# Altium schematic symbol library Capacitor_0603_5_percent.SchLib: 20 symbols
Pins are listed as number, name and electrical type; pins without a type are passive.

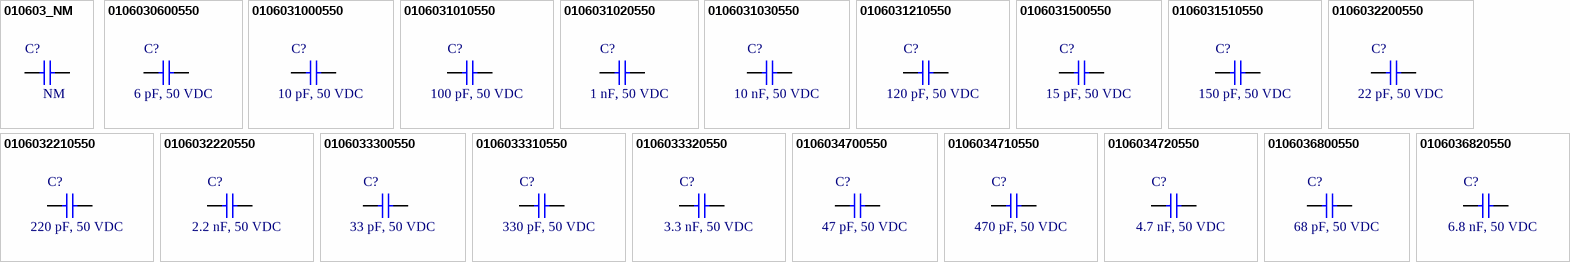
[diagram p0: symbols 010603_NM to 0106036820550]

## 010603_NM
designator C?, comment NM
CAP, size 0603, NM; Packaging: Tape and Reel; Capacitance: N/A; Supplier 1 URL: N/A; Supplier 2 URL: N/A; Supplier 3 URL: N/A; Tolerance: N/A; Voltage Rating DC: N/A; Value: NM; Supplier 1: N/A; Supplier 1 Part Number: N/A; Supplier 2: N/A; Supplier 2 Part Number: N/A; Supplier 3: thegioiic; Supplier 3 Part Number: N/A; Manufacturer: N/A; Manufacturer Part Number: N/A; ComponentLink1Description: Datasheet; ComponentLink1URL: N/A; Mount: SMD/SMT; Operating Temperature Max: + 85 C; Operating Temperature Min: - 40 C; Package / Case: 0603
footprint CAP_0603 (Chip Capacitor, 2-Leads, Body 1.80x0.80mm, IPC Medium Density)
pins: 1, 2

## 0106030600550
designator C?, comment 6 pF, 50 VDC
CAP, size 0603, 6 pF, 50 VDC; Manufacturer: TDK; Manufacturer Part Number: CGA3E2NP01H060D080AA; Capacitance: 6 pF; Tolerance: +/-5%; Voltage Rating DC: 50 VDC; Packaging: Tape and Reel; Supplier 1 URL: https://www.mouser.com/ProductDetail/TDK/CGA3E2NP01H060D080AA?qs=xLDY6iXSiQboN%2F6my%2FnNkQ%3D%3D&utm_source=mouser-refine-download&utm_medium=file&utm_campaign=CGA3E2NP01H060D080AA&utm_content=TDK; Supplier 2 URL: https://www.digikey.com/en/products/detail/tdk-corporation/cga3e2np01h060d080aa/3949663; Supplier 3 URL: N/A; Value: 6 pF, 50 VDC; Supplier 1: Mouser; Supplier 1 Part Number: 810-CGA3E2NP01H060DA; Supplier 2: Digi-Key; Supplier 2 Part Number: 445-12427-2-ND; Supplier 3: thegioiic; Supplier 3 Part Number: N/A; ComponentLink1Description: Datasheet; ComponentLink1URL: https://product.tdk.com/system/files/dam/doc/product/capacitor/ceramic/mlcc/catalog/mlcc_automotive_hightemp_en.pdf?ref_disty=mouser; Mount: SMD/SMT; Operating Temperature Max: + 85 C; Operating Temperature Min: - 40 C; Package / Case: 0603
footprint CAP_0603
pins: 1, 2

## 0106031000550
designator C?, comment 10 pF, 50 VDC
CAP, size 0603, 10 pF, 50 VDC; Manufacturer: TDK; Manufacturer Part Number: CGA3E2NP01H100D080AA; Capacitance: 10 pF; Tolerance: +/-5%; Voltage Rating DC: 50 VDC; Packaging: Tape and Reel; Supplier 1 URL: https://www.mouser.com/ProductDetail/TDK/CGA3E2NP01H100D080AA?qs=xLDY6iXSiQYSDBjUp7bVxg%3D%3D&utm_source=mouser-refine-download&utm_medium=file&utm_campaign=CGA3E2NP01H100D080AA&utm_content=TDK; Supplier 2 URL: https://www.digikey.com/en/products/detail/tdk-corporation/cga3e2np01h100d080aa/3949623; Supplier 3 URL: N/A; Value: 10 pF, 50 VDC; Supplier 1: Mouser; Supplier 1 Part Number: 810-CGA3E2NP01H100DA; Supplier 2: Digi-Key; Supplier 2 Part Number: 445-12387-2-ND; Supplier 3: thegioiic; Supplier 3 Part Number: N/A; ComponentLink1Description: Datasheet; ComponentLink1URL: https://product.tdk.com/system/files/dam/doc/product/capacitor/ceramic/mlcc/catalog/mlcc_automotive_hightemp_en.pdf?ref_disty=mouser; Mount: SMD/SMT; Operating Temperature Max: + 85 C; Operating Temperature Min: - 40 C; Package / Case: 0603; LCSC Part #: C597129
footprint CAP_0603
pins: 1, 2

## 0106031010550
designator C?, comment 100 pF, 50 VDC
CAP, size 0603, 100 pF, 50 VDC; Manufacturer: TDK; Manufacturer Part Number: CGA3E2C0G1H101J080AA; Capacitance: 100 pF; Tolerance: +/-5%; Voltage Rating DC: 50 VDC; Packaging: Tape and Reel; Supplier 1 URL: https://www.mouser.com/ProductDetail/TDK/CGA3E2C0G1H101J080AA?qs=FxQuwy19cyBF0gUakpLdHA%3D%3D&utm_source=mouser-refine-download&utm_medium=file&utm_campaign=CGA3E2C0G1H101J080AA&utm_content=TDK; Supplier 2 URL: https://www.digikey.com/en/products/detail/tdk-corporation/cga3e2c0g1h101j080aa/2443118; Supplier 3 URL: N/A; Value: 100 pF, 50 VDC; Supplier 1: Mouser; Supplier 1 Part Number: 810-CGA3E2C0G1H101J; Supplier 2: Digi-Key; Supplier 2 Part Number: 445-5640-2-ND; Supplier 3: thegioiic; Supplier 3 Part Number: N/A; ComponentLink1Description: Datasheet; ComponentLink1URL: https://product.tdk.com/system/files/dam/doc/product/capacitor/ceramic/mlcc/catalog/mlcc_automotive_general_en.pdf?ref_disty=mouser; Mount: SMD/SMT; Operating Temperature Max: + 85 C; Operating Temperature Min: - 40 C; Package / Case: 0603
footprint CAP_0603
pins: 1, 2

## 0106031020550
designator C?, comment 1 nF, 50 VDC
CAP, size 0603, 1 nF, 50 VDC; Manufacturer: TDK; Manufacturer Part Number: CGA3E2NP01H102J080AA; Capacitance: 1 nF; Tolerance: +/-5%; Voltage Rating DC: 50 VDC; Packaging: Tape and Reel; Supplier 1 URL: https://www.mouser.com/ProductDetail/TDK/CGA3E2NP01H102J080AA?qs=xLDY6iXSiQaozl9q8leaqQ%3D%3D&utm_source=mouser-refine-download&utm_medium=file&utm_campaign=CGA3E2NP01H102J080AA&utm_content=TDK; Supplier 2 URL: https://www.digikey.com/en/products/detail/tdk-corporation/cga3e2np01h102j080aa/3949621; Supplier 3 URL: N/A; Value: 1 nF, 50 VDC; Supplier 1: Mouser; Supplier 1 Part Number: 810-CGA3E2NP01H102JA; Supplier 2: Digi-Key; Supplier 2 Part Number: 445-12385-2-ND; Supplier 3: thegioiic; Supplier 3 Part Number: N/A; ComponentLink1Description: Datasheet; ComponentLink1URL: https://product.tdk.com/system/files/dam/doc/product/capacitor/ceramic/mlcc/catalog/mlcc_automotive_hightemp_en.pdf?ref_disty=mouser; Mount: SMD/SMT; Operating Temperature Max: + 85 C; Operating Temperature Min: - 40 C; Package / Case: 0603
footprint CAP_0603
pins: 1, 2

## 0106031030550
designator C?, comment 10 nF, 50 VDC
CAP, size 0603, 10 nF, 50 VDC; Manufacturer: TDK; Manufacturer Part Number: CGA3E2C0G1H103J080AE; Capacitance: 10 nF; Tolerance: +/-5%; Voltage Rating DC: 50 VDC; Packaging: Tape and Reel; Supplier 1 URL: https://www.mouser.com/ProductDetail/TDK/CGA3E2C0G1H103J080AE?qs=P1JMDcb91o6ZkMITrWTUZQ%3D%3D&utm_source=mouser-refine-download&utm_medium=file&utm_campaign=CGA3E2C0G1H103J080AE&utm_content=TDK; Supplier 2 URL: https://www.digikey.com/en/products/detail/tdk-corporation/cga3e2c0g1h103j080ae/11697946; Supplier 3 URL: N/A; Value: 10 nF, 50 VDC; Supplier 1: Mouser; Supplier 1 Part Number: 810-CGA3E2C0G1H103J8; Supplier 2: Digi-Key; Supplier 2 Part Number: 445-CGA3E2C0G1H103J080AETR-ND; Supplier 3: thegioiic; Supplier 3 Part Number: N/A; ComponentLink1Description: Datasheet; ComponentLink1URL: https://product.tdk.com/system/files/dam/doc/product/capacitor/ceramic/mlcc/catalog/mlcc_automotive_soft_en.pdf?ref_disty=mouser; Mount: SMD/SMT; Operating Temperature Max: + 85 C; Operating Temperature Min: - 40 C; Package / Case: 0603
footprint CAP_0603
pins: 1, 2

## 0106031210550
designator C?, comment 120 pF, 50 VDC
CAP, size 0603, 120 pF, 50 VDC; Manufacturer: TDK; Manufacturer Part Number: CGA3E2C0G1H121J080AA; Capacitance: 120 pF; Tolerance: +/-5%; Voltage Rating DC: 50 VDC; Packaging: Tape and Reel; Supplier 1 URL: https://www.mouser.com/ProductDetail/TDK/CGA3E2C0G1H121J080AA?qs=FxQuwy19cyBg4sbqrDD07w%3D%3D&utm_source=mouser-refine-download&utm_medium=file&utm_campaign=CGA3E2C0G1H121J080AA&utm_content=TDK; Supplier 2 URL: https://www.digikey.com/en/products/detail/tdk-corporation/cga3e2c0g1h121j080aa/2443119; Supplier 3 URL: N/A; Value: 120 pF, 50 VDC; Supplier 1: Mouser; Supplier 1 Part Number: 810-CGA3E2C0G1H121J; Supplier 2: Digi-Key; Supplier 2 Part Number: 445-5641-2-ND; Supplier 3: thegioiic; Supplier 3 Part Number: N/A; ComponentLink1Description: Datasheet; ComponentLink1URL: https://product.tdk.com/system/files/dam/doc/product/capacitor/ceramic/mlcc/catalog/mlcc_automotive_general_en.pdf?ref_disty=mouser; Mount: SMD/SMT; Operating Temperature Max: + 85 C; Operating Temperature Min: - 40 C; Package / Case: 0603
footprint CAP_0603
pins: 1, 2

## 0106031500550
designator C?, comment 15 pF, 50 VDC
CAP, size 0603, 15 pF, 50 VDC; Manufacturer: TDK; Manufacturer Part Number: CGA3E2NP01H150J080AA; Capacitance: 15 pF; Tolerance: +/-5%; Voltage Rating DC: 50 VDC; Packaging: Tape and Reel; Supplier 1 URL: https://www.mouser.com/ProductDetail/TDK/CGA3E2NP01H150J080AA?qs=xLDY6iXSiQaG7IFLqTiW9w%3D%3D&utm_source=mouser-refine-download&utm_medium=file&utm_campaign=CGA3E2NP01H150J080AA&utm_content=TDK; Supplier 2 URL: https://www.digikey.com/en/products/detail/tdk-corporation/cga3e2np01h150j080aa/3949629; Supplier 3 URL: N/A; Value: 15 pF, 50 VDC; Supplier 1: Mouser; Supplier 1 Part Number: 810-CGA3E2NP01H150JA; Supplier 2: Digi-Key; Supplier 2 Part Number: 445-12393-2-ND; Supplier 3: thegioiic; Supplier 3 Part Number: N/A; ComponentLink1Description: Datasheet; ComponentLink1URL: https://product.tdk.com/system/files/dam/doc/product/capacitor/ceramic/mlcc/catalog/mlcc_automotive_hightemp_en.pdf?ref_disty=mouser; Mount: SMD/SMT; Operating Temperature Max: + 85 C; Operating Temperature Min: - 40 C; Package / Case: 0603
footprint CAP_0603
pins: 1, 2

## 0106031510550
designator C?, comment 150 pF, 50 VDC
CAP, size 0603, 150 pF, 50 VDC; Manufacturer: TDK; Manufacturer Part Number: CGA3E2NP01H151J080AA; Capacitance: 150 pF; Tolerance: +/-5%; Voltage Rating DC: 50 VDC; Packaging: Tape and Reel; Supplier 1 URL: https://www.mouser.com/ProductDetail/TDK/CGA3E2NP01H151J080AA?qs=xLDY6iXSiQbM3h2lmj%252BEHw%3D%3D&utm_source=mouser-refine-download&utm_medium=file&utm_campaign=CGA3E2NP01H151J080AA&utm_content=TDK; Supplier 2 URL: https://www.digikey.com/en/products/detail/tdk-corporation/cga3e2np01h151j080aa/3949628; Supplier 3 URL: N/A; Value: 150 pF, 50 VDC; Supplier 1: Mouser; Supplier 1 Part Number: 810-CGA3E2NP01H151JA; Supplier 2: Digi-Key; Supplier 2 Part Number: 445-12392-2-ND; Supplier 3: thegioiic; Supplier 3 Part Number: N/A; ComponentLink1Description: Datasheet; ComponentLink1URL: https://product.tdk.com/system/files/dam/doc/product/capacitor/ceramic/mlcc/catalog/mlcc_automotive_hightemp_en.pdf?ref_disty=mouser; Mount: SMD/SMT; Operating Temperature Max: + 85 C; Operating Temperature Min: - 40 C; Package / Case: 0603
footprint CAP_0603
pins: 1, 2

## 0106032200550
designator C?, comment 22 pF, 50 VDC
CAP, size 0603, 22 pF, 50 VDC; Manufacturer: TDK; Manufacturer Part Number: CGA3E2NP01H220J080AA; Capacitance: 22 pF; Tolerance: +/-5%; Voltage Rating DC: 50 VDC; Packaging: Tape and Reel; Supplier 1 URL: https://www.mouser.com/ProductDetail/TDK/CGA3E2NP01H220J080AA?qs=xLDY6iXSiQbIDiPJq57tVA%3D%3D&utm_source=mouser-refine-download&utm_medium=file&utm_campaign=CGA3E2NP01H220J080AA&utm_content=TDK; Supplier 2 URL: https://www.digikey.com/en/products/detail/tdk-corporation/cga3e2np01h220j080aa/3949637; Supplier 3 URL: N/A; Value: 22 pF, 50 VDC; Supplier 1: Mouser; Supplier 1 Part Number: 810-CGA3E2NP01H220JA; Supplier 2: Digi-Key; Supplier 2 Part Number: 445-12401-2-ND; Supplier 3: thegioiic; Supplier 3 Part Number: N/A; ComponentLink1Description: Datasheet; ComponentLink1URL: https://product.tdk.com/system/files/dam/doc/product/capacitor/ceramic/mlcc/catalog/mlcc_automotive_hightemp_en.pdf?ref_disty=mouser; Mount: SMD/SMT; Operating Temperature Max: + 85 C; Operating Temperature Min: - 40 C; Package / Case: 0603
footprint CAP_0603
pins: 1, 2

## 0106032210550
designator C?, comment 220 pF, 50 VDC
CAP, size 0603, 220 pF, 50 VDC; Manufacturer: TDK; Manufacturer Part Number: CGA3E2NP01H221J080AA; Capacitance: 220 pF; Tolerance: +/-5%; Voltage Rating DC: 50 VDC; Packaging: Tape and Reel; Supplier 1 URL: https://www.mouser.com/ProductDetail/TDK/CGA3E2NP01H221J080AA?qs=xLDY6iXSiQYBui4uRYEznw%3D%3D&utm_source=mouser-refine-download&utm_medium=file&utm_campaign=CGA3E2NP01H221J080AA&utm_content=TDK; Supplier 2 URL: https://www.digikey.com/en/products/detail/tdk-corporation/cga3e2np01h221j080aa/3949636; Supplier 3 URL: N/A; Value: 220 pF, 50 VDC; Supplier 1: Mouser; Supplier 1 Part Number: 810-CGA3E2NP01H221JA; Supplier 2: Digi-Key; Supplier 2 Part Number: 445-12400-2-ND; Supplier 3: thegioiic; Supplier 3 Part Number: N/A; ComponentLink1Description: Datasheet; ComponentLink1URL: https://product.tdk.com/system/files/dam/doc/product/capacitor/ceramic/mlcc/catalog/mlcc_automotive_hightemp_en.pdf?ref_disty=mouser; Mount: SMD/SMT; Operating Temperature Max: + 85 C; Operating Temperature Min: - 40 C; Package / Case: 0603
footprint CAP_0603
pins: 1, 2

## 0106032220550
designator C?, comment 2.2 nF, 50 VDC
CAP, size 0603, 2.2 nF, 50 VDC; Manufacturer: TDK; Manufacturer Part Number: CGA3E2C0G1H222J080AE; Capacitance: 2.2 nF; Tolerance: +/-5%; Voltage Rating DC: 50 VDC; Packaging: Tape and Reel; Supplier 1 URL: https://www.mouser.com/ProductDetail/TDK/CGA3E2C0G1H222J080AE?qs=P1JMDcb91o5KNu2GzASXrQ%3D%3D&utm_source=mouser-refine-download&utm_medium=file&utm_campaign=CGA3E2C0G1H222J080AE&utm_content=TDK; Supplier 2 URL: https://www.digikey.com/en/products/detail/tdk-corporation/cga3e2c0g1h222j080ae/11697925; Supplier 3 URL: N/A; Value: 2.2 nF, 50 VDC; Supplier 1: Mouser; Supplier 1 Part Number: 810-CGA3E2C0G1H222J8; Supplier 2: Digi-Key; Supplier 2 Part Number: 445-CGA3E2C0G1H222J080AETR-ND; Supplier 3: thegioiic; Supplier 3 Part Number: N/A; ComponentLink1Description: Datasheet; ComponentLink1URL: https://product.tdk.com/system/files/dam/doc/product/capacitor/ceramic/mlcc/catalog/mlcc_automotive_soft_en.pdf?ref_disty=mouser; Mount: SMD/SMT; Operating Temperature Max: + 85 C; Operating Temperature Min: - 40 C; Package / Case: 0603
footprint CAP_0603
pins: 1, 2

## 0106033300550
designator C?, comment 33 pF, 50 VDC
CAP, size 0603, 33 pF, 50 VDC; Manufacturer: TDK; Manufacturer Part Number: CGA3E2NP01H330J080AA; Capacitance: 33 pF; Tolerance: +/-5%; Voltage Rating DC: 50 VDC; Packaging: Tape and Reel; Supplier 1 URL: https://www.mouser.com/ProductDetail/TDK/CGA3E2NP01H330J080AA?qs=xLDY6iXSiQZLs28ZlT4aFg%3D%3D&utm_source=mouser-refine-download&utm_medium=file&utm_campaign=CGA3E2NP01H330J080AA&utm_content=TDK; Supplier 2 URL: https://www.digikey.com/en/products/detail/tdk-corporation/cga3e2np01h330j080aa/3949645; Supplier 3 URL: N/A; Value: 33 pF, 50 VDC; Supplier 1: Mouser; Supplier 1 Part Number: 810-CGA3E2NP01H330JA; Supplier 2: Digi-Key; Supplier 2 Part Number: 445-12409-2-ND; Supplier 3: thegioiic; Supplier 3 Part Number: N/A; ComponentLink1Description: Datasheet; ComponentLink1URL: https://product.tdk.com/system/files/dam/doc/product/capacitor/ceramic/mlcc/catalog/mlcc_automotive_hightemp_en.pdf?ref_disty=mouser; Mount: SMD/SMT; Operating Temperature Max: + 85 C; Operating Temperature Min: - 40 C; Package / Case: 0603
footprint CAP_0603
pins: 1, 2

## 0106033310550
designator C?, comment 330 pF, 50 VDC
CAP, size 0603, 330 pF, 50 VDC; Manufacturer: TDK; Manufacturer Part Number: CGA3E2C0G1H331J080AE; Capacitance: 330 pF; Tolerance: +/-5%; Voltage Rating DC: 50 VDC; Packaging: Tape and Reel; Supplier 1 URL: https://www.mouser.com/ProductDetail/TDK/CGA3E2C0G1H331J080AE?qs=P1JMDcb91o7BZBrb2%2F%252BfEg%3D%3D&utm_source=mouser-refine-download&utm_medium=file&utm_campaign=CGA3E2C0G1H331J080AE&utm_content=TDK; Supplier 2 URL: https://www.digikey.com/en/products/detail/tdk-corporation/cga3e2c0g1h331j080ae/11697951; Supplier 3 URL: N/A; Value: 330 pF, 50 VDC; Supplier 1: Mouser; Supplier 1 Part Number: 810-CGA3E2C0G1H331J8; Supplier 2: Digi-Key; Supplier 2 Part Number: 445-CGA3E2C0G1H331J080AETR-ND; Supplier 3: thegioiic; Supplier 3 Part Number: N/A; ComponentLink1Description: Datasheet; ComponentLink1URL: https://product.tdk.com/system/files/dam/doc/product/capacitor/ceramic/mlcc/catalog/mlcc_automotive_soft_en.pdf?ref_disty=mouser; Mount: SMD/SMT; Operating Temperature Max: + 85 C; Operating Temperature Min: - 40 C; Package / Case: 0603
footprint CAP_0603
pins: 1, 2

## 0106033320550
designator C?, comment 3.3 nF, 50 VDC
CAP, size 0603, 3.3 nF, 50 VDC; Manufacturer: TDK; Manufacturer Part Number: CGA3E2C0G1H332J080AE; Capacitance: 3.3 nF; Tolerance: +/-5%; Voltage Rating DC: 50 VDC; Packaging: Tape and Reel; Supplier 1 URL: https://www.mouser.com/ProductDetail/TDK/CGA3E2C0G1H332J080AE?qs=P1JMDcb91o59%252BuVOytSHFw%3D%3D&utm_source=mouser-refine-download&utm_medium=file&utm_campaign=CGA3E2C0G1H332J080AE&utm_content=TDK; Supplier 2 URL: https://www.digikey.com/en/products/detail/tdk-corporation/cga3e2c0g1h332j080ae/11697916; Supplier 3 URL: N/A; Value: 3.3 nF, 50 VDC; Supplier 1: Mouser; Supplier 1 Part Number: 810-CGA3E2C0G1H332J8; Supplier 2: Digi-Key; Supplier 2 Part Number: 445-CGA3E2C0G1H332J080AETR-ND; Supplier 3: thegioiic; Supplier 3 Part Number: N/A; ComponentLink1Description: Datasheet; ComponentLink1URL: https://product.tdk.com/system/files/dam/doc/product/capacitor/ceramic/mlcc/catalog/mlcc_automotive_soft_en.pdf?ref_disty=mouser; Mount: SMD/SMT; Operating Temperature Max: + 85 C; Operating Temperature Min: - 40 C; Package / Case: 0603
footprint CAP_0603
pins: 1, 2

## 0106034700550
designator C?, comment 47 pF, 50 VDC
CAP, size 0603, 47 pF, 50 VDC; Manufacturer: TDK; Manufacturer Part Number: CGA3E2NP01H470J080AA; Capacitance: 47 pF; Tolerance: +/-5%; Voltage Rating DC: 50 VDC; Packaging: Tape and Reel; Supplier 1 URL: https://www.mouser.com/ProductDetail/TDK/CGA3E2NP01H470J080AA?qs=xLDY6iXSiQafbKrKYP6n6w%3D%3D&utm_source=mouser-refine-download&utm_medium=file&utm_campaign=CGA3E2NP01H470J080AA&utm_content=TDK; Supplier 2 URL: https://www.digikey.com/en/products/detail/tdk-corporation/cga3e2np01h470j080aa/3949653; Supplier 3 URL: N/A; Value: 47 pF, 50 VDC; Supplier 1: Mouser; Supplier 1 Part Number: 810-CGA3E2NP01H470JA; Supplier 2: Digi-Key; Supplier 2 Part Number: 445-12417-2-ND; Supplier 3: thegioiic; Supplier 3 Part Number: N/A; ComponentLink1Description: Datasheet; ComponentLink1URL: https://product.tdk.com/system/files/dam/doc/product/capacitor/ceramic/mlcc/catalog/mlcc_automotive_hightemp_en.pdf?ref_disty=mouser; Mount: SMD/SMT; Operating Temperature Max: + 85 C; Operating Temperature Min: - 40 C; Package / Case: 0603
footprint CAP_0603
pins: 1, 2

## 0106034710550
designator C?, comment 470 pF, 50 VDC
CAP, size 0603, 470 pF, 50 VDC; Manufacturer: TDK; Manufacturer Part Number: CGA3E2C0G1H471J080AA; Capacitance: 470 pF; Tolerance: +/-5%; Voltage Rating DC: 50 VDC; Packaging: Tape and Reel; Supplier 1 URL: https://www.mouser.com/ProductDetail/TDK/CGA3E2C0G1H471J080AA?qs=FxQuwy19cyDgYWT5Y4dMEA%3D%3D&utm_source=mouser-refine-download&utm_medium=file&utm_campaign=CGA3E2C0G1H471J080AA&utm_content=TDK; Supplier 2 URL: https://www.digikey.com/en/products/detail/tdk-corporation/cga3e2c0g1h471j080aa/2443126; Supplier 3 URL: N/A; Value: 470 pF, 50 VDC; Supplier 1: Mouser; Supplier 1 Part Number: 810-CGA3E2C0G1H471J; Supplier 2: Digi-Key; Supplier 2 Part Number: 445-5648-2-ND; Supplier 3: thegioiic; Supplier 3 Part Number: N/A; ComponentLink1Description: Datasheet; ComponentLink1URL: https://product.tdk.com/system/files/dam/doc/product/capacitor/ceramic/mlcc/catalog/mlcc_automotive_general_en.pdf?ref_disty=mouser; Mount: SMD/SMT; Operating Temperature Max: + 85 C; Operating Temperature Min: - 40 C; Package / Case: 0603
footprint CAP_0603
pins: 1, 2

## 0106034720550
designator C?, comment 4.7 nF, 50 VDC
CAP, size 0603, 4.7 nF, 50 VDC; Manufacturer: TDK; Manufacturer Part Number: CGA3E2C0G1H472J080AE; Capacitance: 4.7 nF; Tolerance: +/-5%; Voltage Rating DC: 50 VDC; Packaging: Tape and Reel; Supplier 1 URL: https://www.mouser.com/ProductDetail/TDK/CGA3E2C0G1H472J080AE?qs=P1JMDcb91o40yPGsg8XhIQ%3D%3D&utm_source=mouser-refine-download&utm_medium=file&utm_campaign=CGA3E2C0G1H472J080AE&utm_content=TDK; Supplier 2 URL: https://www.digikey.com/en/products/detail/tdk-corporation/cga3e2c0g1h472j080ae/11697957; Supplier 3 URL: N/A; Value: 4.7 nF, 50 VDC; Supplier 1: Mouser; Supplier 1 Part Number: 810-CGA3E2C0G1H472J8; Supplier 2: Digi-Key; Supplier 2 Part Number: 445-CGA3E2C0G1H472J080AETR-ND; Supplier 3: thegioiic; Supplier 3 Part Number: N/A; ComponentLink1Description: Datasheet; ComponentLink1URL: https://product.tdk.com/system/files/dam/doc/product/capacitor/ceramic/mlcc/catalog/mlcc_automotive_soft_en.pdf?ref_disty=mouser; Mount: SMD/SMT; Operating Temperature Max: + 85 C; Operating Temperature Min: - 40 C; Package / Case: 0603
footprint CAP_0603
pins: 1, 2

## 0106036800550
designator C?, comment 68 pF, 50 VDC
CAP, size 0603, 68 pF, 50 VDC; Manufacturer: TDK; Manufacturer Part Number: CGA3E2NP01H680J080AA; Capacitance: 68 pF; Tolerance: +/-5%; Voltage Rating DC: 50 VDC; Packaging: Tape and Reel; Supplier 1 URL: https://www.mouser.com/ProductDetail/TDK/CGA3E2NP01H680J080AA?qs=xLDY6iXSiQaqOSAuMryyzg%3D%3D&utm_source=mouser-refine-download&utm_medium=file&utm_campaign=CGA3E2NP01H680J080AA&utm_content=TDK; Supplier 2 URL: https://www.digikey.com/en/products/detail/tdk-corporation/cga3e2np01h680j080aa/3949662; Supplier 3 URL: N/A; Value: 68 pF, 50 VDC; Supplier 1: Mouser; Supplier 1 Part Number: 810-CGA3E2NP01H680JA; Supplier 2: Digi-Key; Supplier 2 Part Number: 445-12426-2-ND; Supplier 3: thegioiic; Supplier 3 Part Number: N/A; ComponentLink1Description: Datasheet; ComponentLink1URL: https://product.tdk.com/system/files/dam/doc/product/capacitor/ceramic/mlcc/catalog/mlcc_automotive_hightemp_en.pdf?ref_disty=mouser; Mount: SMD/SMT; Operating Temperature Max: + 85 C; Operating Temperature Min: - 40 C; Package / Case: 0603
footprint CAP_0603
pins: 1, 2

## 0106036820550
designator C?, comment 6.8 nF, 50 VDC
CAP, size 0603, 6.8 nF, 50 VDC; Manufacturer: TDK; Manufacturer Part Number: CGA3E2C0G1H682J080AE; Capacitance: 6.8 nF; Tolerance: +/-5%; Voltage Rating DC: 50 VDC; Packaging: Tape and Reel; Supplier 1 URL: https://www.mouser.com/ProductDetail/TDK/CGA3E2C0G1H682J080AE?qs=P1JMDcb91o602kSKBfoYXA%3D%3D&utm_source=mouser-refine-download&utm_medium=file&utm_campaign=CGA3E2C0G1H682J080AE&utm_content=TDK; Supplier 2 URL: https://www.digikey.com/en/products/detail/tdk-corporation/cga3e2c0g1h682j080ae/11697931; Supplier 3 URL: N/A; Value: 6.8 nF, 50 VDC; Supplier 1: Mouser; Supplier 1 Part Number: 810-CGA3E2C0G1H682J8; Supplier 2: Digi-Key; Supplier 2 Part Number: 445-CGA3E2C0G1H682J080AETR-ND; Supplier 3: thegioiic; Supplier 3 Part Number: N/A; ComponentLink1Description: Datasheet; ComponentLink1URL: https://product.tdk.com/system/files/dam/doc/product/capacitor/ceramic/mlcc/catalog/mlcc_automotive_soft_en.pdf?ref_disty=mouser; Mount: SMD/SMT; Operating Temperature Max: + 85 C; Operating Temperature Min: - 40 C; Package / Case: 0603
footprint CAP_0603
pins: 1, 2